# Altium footprint library adafruit.PCBLIB: 643 footprints (part 20 of 41)
Each footprint in its own frame and in the unit in brackets; x right, y up, seen from the top. Pads: shape width x height; smd on the part's side, far side on the other; paste and mask are expansions set on the pad; w line width, h text height; cw(c..) or ccw(c..) is an arc to the next point about the centre after c.
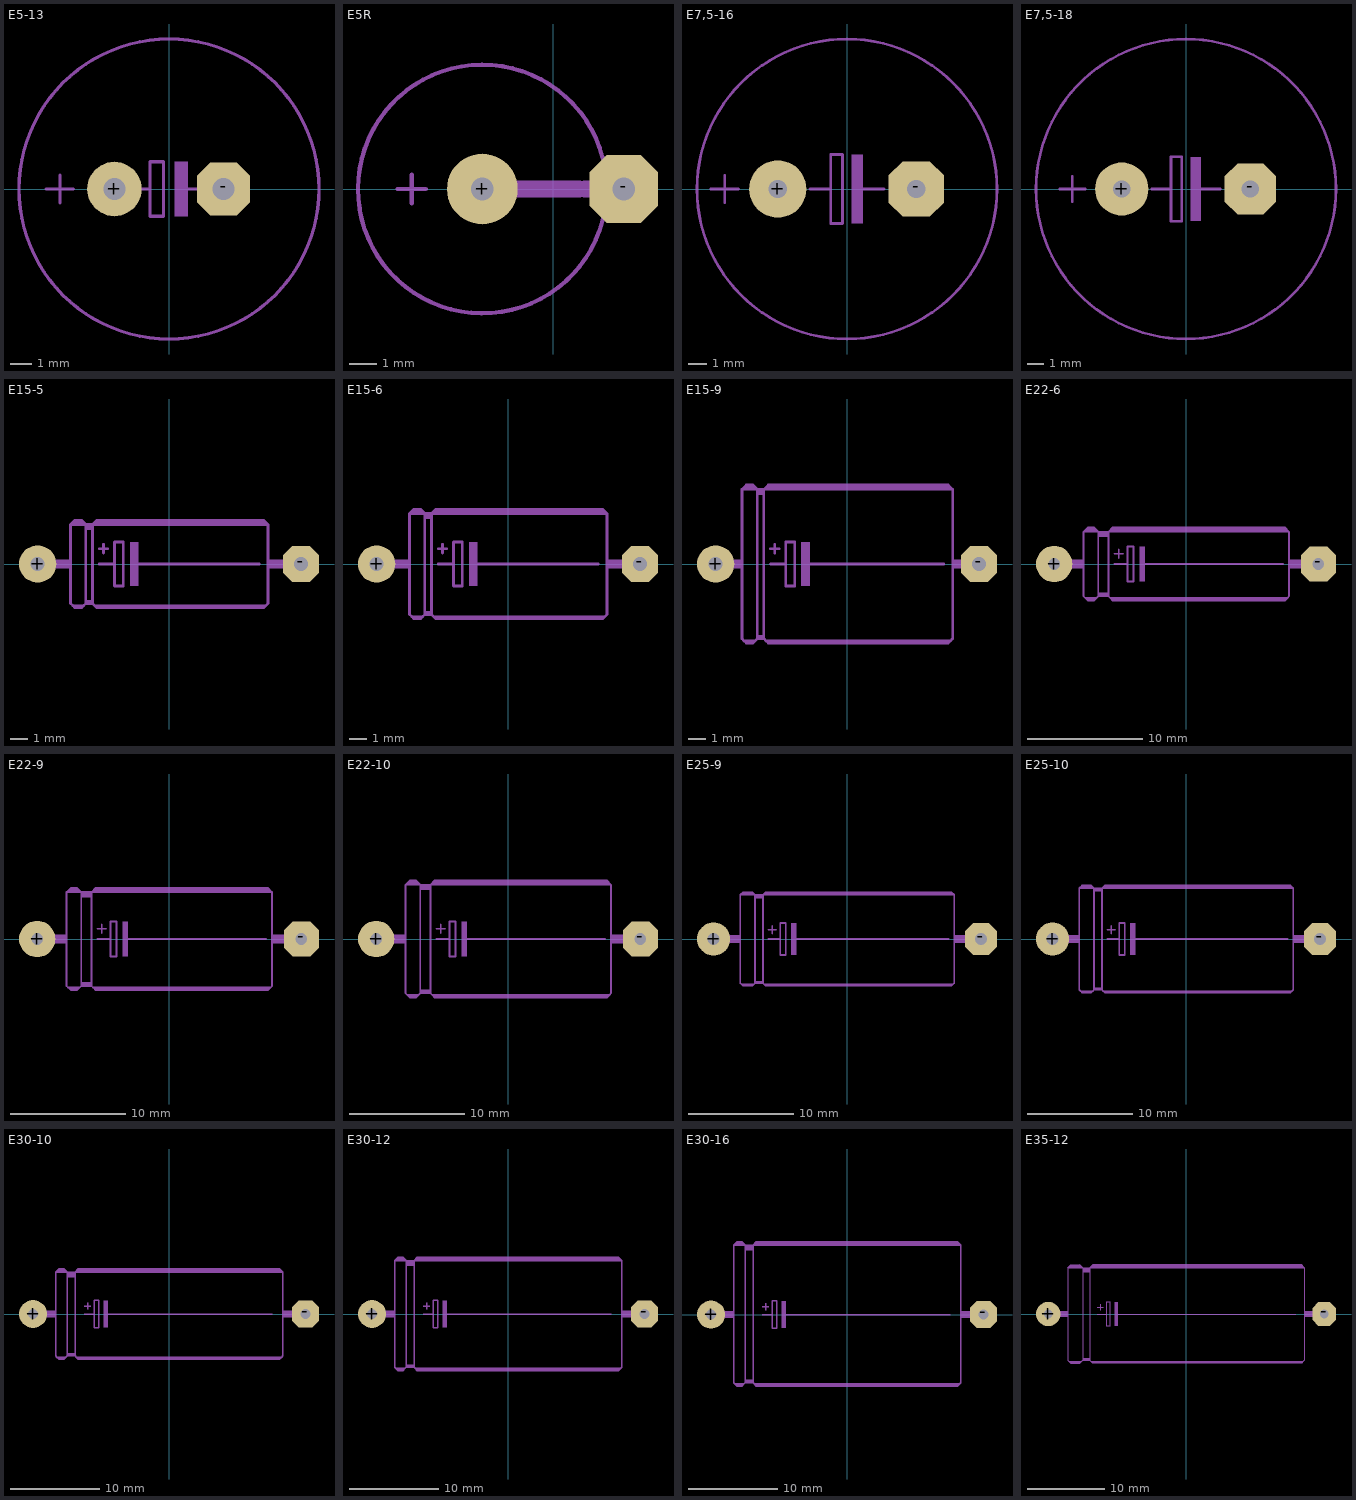
[diagram p19: the footprints below, top view; thin cyan lines are the x and y axes]

## E5-13 [mil]
pads (2):
  round 100 hole 40: +(-100,0)
  oct 96.82x96.82 hole 40: -(100,0)
Mechanical 2:
  circle w6: c0,0 r275
  rectangle: 10,-50 35,50
  lines w6: -225,0 -175,0 ; -200,-25 -200,25 ; -45,0 -35,0 ; 25,0 45,0 ; -35,0 -35,-50 -10,-50 -10,50 -35,50 -35,0
Mechanical 18:
  lines w6: -65,0 -45,0 ; 40,0 60,0

## E5R [mil]
pads (2):
  round 100 hole 32: +(-100,0)
  oct 96.82x96.82 hole 32: -(100,0)
Mechanical 2:
  lines w6: -220,0 -180,0 ; -200,-20 -200,20 ; 70,-45 cw(c-100,0) 70.16,44.39
  lines w24: -35,0 37,0
Mechanical 18:
  lines w6: 69.81,45.72 cw(c-100,0) 70,-45
  lines w24: -100,0 -40,0 ; 45,0 100,0

## E7,5-16 [mil]
pads (2):
  round 124 hole 40: +(-150,0)
  oct 120.06x120.06 hole 40: -(150,0)
Mechanical 2:
  circle w6: c0,0 r325
  rectangle: 10,-75 35,75
  lines w6: -295,0 -235,0 ; -265,-30 -265,30 ; -80,0 -35,0 ; 25,0 80,0 ; -35,0 -35,75 -10,75 -10,-75 -35,-75 -35,0

## E7,5-18 [mil]
pads (2):
  round 124 hole 40: +(-150,0)
  oct 120.06x120.06 hole 40: -(150,0)
Mechanical 2:
  circle w6: c0,0 r350
  rectangle: 10,-75 35,75
  lines w6: -295,0 -235,0 ; -265,-30 -265,30 ; -80,0 -35,0 ; 25,0 80,0 ; -35,0 -35,75 -10,75 -10,-75 -35,-75 -35,0

## E15-5 [mil]
pads (2):
  round 85 hole 32: +(-300,0)
  oct 82.3x82.3 hole 32: -(300,0)
Mechanical 2:
  rectangle: -90,-50 -70,50
  rectangle: -255,-10 -225,10
  rectangle: 225,-10 255,10
  lines w6: -200,-98 -215,-98 -215,-100 ; -160,0 -125,0 ; -160,35 -140,35 ; -150,25 -150,45 ; -75,0 205,0 ; 215,-98 -165,-98 -165,-100 ; -225,90 -225,-90 -220,-95 ; -225,90 -215,100 -200,100 -190,90 ; -225,90 -190,90 ; -220,-95 -215,-100 ; -220,-95 -195,-95 ; -215,-100 -200,-100 -195,-95 ; -195,-95 -190,-90 ; -190,-90 -175,-90 ; -190,-90 -190,-88 ; -190,-88 -190,-85 ; -190,-88 -175,-88 ; -190,-85 -190,80 ; -190,-85 -175,-85 ; -190,80 -190,90 ; -190,80 -175,80 ; -190,90 -175,90 ; -175,-90 -170,-95 ; -175,-90 -175,-88 ; -175,-88 -175,-85 ; -175,-85 -175,80 ; -175,80 -175,90 ; -175,90 -165,100 215,100 225,90 ; -175,90 225,90 ; -170,-95 -165,-100 ; -170,-95 220,-95 ; -165,-100 215,-100 220,-95 ; -125,0 -125,-50 -105,-50 -105,50 -125,50 -125,0 ; 220,-95 225,-90 225,90
  lines w12: -215,95 -200,95 ; -185,85 -180,85 ; -165,95 215,95
Mechanical 18:
  lines w20: -300,0 -255,0 ; 255,0 300,0

## E15-6 [mil]
pads (2):
  round 85 hole 32: +(-300,0)
  oct 82.3x82.3 hole 32: -(300,0)
Mechanical 2:
  rectangle: -90,-50 -70,50
  rectangle: -255,-10 -225,10
  rectangle: 225,-10 255,10
  lines w6: -200,-123 -215,-123 -215,-125 ; -160,0 -125,0 ; -160,35 -140,35 ; -150,25 -150,45 ; -75,0 205,0 ; 215,-123 -165,-123 -165,-125 ; -225,115 -225,-115 -220,-120 ; -225,115 -215,125 -200,125 -190,115 ; -225,115 -190,115 ; -220,-120 -215,-125 ; -220,-120 -195,-120 ; -215,-125 -200,-125 -195,-120 ; -195,-120 -190,-115 ; -190,-115 -175,-115 ; -190,-115 -190,-113 ; -190,-113 -190,-110 ; -190,-113 -175,-113 ; -190,-110 -190,105 ; -190,-110 -175,-110 ; -190,105 -190,115 ; -190,105 -175,105 ; -190,115 -175,115 ; -175,-115 -170,-120 ; -175,-115 -175,-113 ; -175,-113 -175,-110 ; -175,-110 -175,105 ; -175,105 -175,115 ; -175,115 -165,125 215,125 225,115 ; -175,115 225,115 ; -170,-120 -165,-125 ; -170,-120 220,-120 ; -165,-125 215,-125 220,-120 ; -125,0 -125,-50 -105,-50 -105,50 -125,50 -125,0 ; 220,-120 225,-115 225,115
  lines w12: -215,120 -200,120 ; -185,110 -180,110 ; -165,120 215,120
Mechanical 18:
  lines w20: -300,0 -255,0 ; 255,0 300,0

## E15-9 [mil]
pads (2):
  round 85 hole 32: +(-300,0)
  oct 82.3x82.3 hole 32: -(300,0)
Mechanical 2:
  rectangle: -105,-50 -85,50
  rectangle: 240,-10 255,10
  rectangle: -255,-10 -240,10
  lines w6: -215,-178 -230,-178 -230,-180 ; -175,0 -140,0 ; -175,35 -155,35 ; -165,25 -165,45 ; -90,0 220,0 ; 230,-178 -180,-178 -180,-180 ; -240,170 -240,-170 -235,-175 ; -240,170 -230,180 -215,180 -205,170 ; -240,170 -205,170 ; -235,-175 -230,-180 ; -235,-175 -210,-175 ; -230,-180 -215,-180 -210,-175 ; -210,-175 -205,-170 ; -205,-170 -190,-170 ; -205,-170 -205,-168 ; -205,-168 -205,-165 ; -205,-168 -190,-168 ; -205,-165 -205,160 ; -205,-165 -190,-165 ; -205,160 -205,170 ; -205,160 -190,160 ; -205,170 -190,170 ; -190,-170 -185,-175 ; -190,-170 -190,-168 ; -190,-168 -190,-165 ; -190,-165 -190,160 ; -190,160 -190,170 ; -190,170 -180,180 230,180 240,170 ; -190,170 240,170 ; -185,-175 -180,-180 ; -185,-175 235,-175 ; -180,-180 230,-180 235,-175 ; -140,0 -140,-50 -120,-50 -120,50 -140,50 -140,0 ; 235,-175 240,-170 240,170
  lines w12: -230,175 -215,175 ; -200,165 -195,165 ; -180,175 230,175
Mechanical 18:
  lines w20: -300,0 -255,0 ; 255,0 300,0

## E22-6 [mil]
pads (2):
  round 124 hole 40: +(-450,0)
  oct 120.06x120.06 hole 40: -(450,0)
Mechanical 2:
  rectangle: -160,-60 -140,60
  rectangle: -385,-15 -350,15
  rectangle: 350,-15 385,15
  lines w6: -245,0 -200,0 ; -245,35 -215,35 ; -230,20 -230,50 ; -145,0 330,0 ; -350,110 -350,-110 -345,-115 ; -350,110 -335,125 -315,125 -300,110 ; -350,110 -300,110 ; -345,-115 -305,-115 ; -345,-115 -335,-125 -315,-125 -305,-115 ; -305,-115 -300,-110 ; -300,-110 -300,-100 ; -300,-110 -265,-110 ; -300,-100 -265,-100 ; -300,-100 -300,95 ; -300,95 -300,110 ; -300,95 -265,95 ; -300,110 -265,110 ; -265,-110 -260,-115 ; -265,-110 -265,-100 ; -265,-100 -265,95 ; -265,95 -265,110 ; -265,110 -250,125 335,125 350,110 ; -265,110 350,110 ; -260,-115 -250,-125 335,-125 345,-115 ; -260,-115 345,-115 ; -200,0 -200,60 -180,60 -180,-60 -200,-60 -200,0 ; 345,-115 350,-110 350,110
  lines w10: -335,-120 -315,-120 ; -295,-105 -270,-105 ; -250,-120 335,-120
  lines w12: -340,115 -310,115 ; -335,120 -315,120 ; -295,100 -270,100 ; -295,105 -270,105 ; -255,115 340,115 ; -250,120 335,120
Mechanical 18:
  lines w30: -450,0 -385,0 ; 385,0 450,0

## E22-9 [mil]
pads (2):
  round 124 hole 40: +(-450,0)
  oct 120.06x120.06 hole 40: -(450,0)
Mechanical 2:
  rectangle: -160,-60 -140,60
  rectangle: -385,-15 -350,15
  rectangle: 350,-15 385,15
  lines w6: -245,0 -200,0 ; -245,35 -215,35 ; -230,20 -230,50 ; -145,0 330,0 ; -350,160 -350,-160 -345,-165 ; -350,160 -335,175 -315,175 -300,160 ; -350,160 -300,160 ; -345,-165 -305,-165 ; -345,-165 -335,-175 -315,-175 -305,-165 ; -305,-165 -300,-160 ; -300,-160 -300,-150 ; -300,-160 -265,-160 ; -300,-150 -265,-150 ; -300,-150 -300,145 ; -300,145 -300,160 ; -300,145 -265,145 ; -300,160 -265,160 ; -265,-160 -260,-165 ; -265,-160 -265,-150 ; -265,-150 -265,145 ; -265,145 -265,160 ; -265,160 -250,175 335,175 350,160 ; -265,160 350,160 ; -260,-165 -250,-175 335,-175 345,-165 ; -260,-165 345,-165 ; -200,0 -200,60 -180,60 -180,-60 -200,-60 -200,0 ; 345,-165 350,-160 350,160
  lines w10: -335,-170 -315,-170 ; -295,-155 -270,-155 ; -250,-170 335,-170
  lines w12: -340,165 -310,165 ; -335,170 -315,170 ; -295,150 -270,150 ; -295,155 -270,155 ; -255,165 340,165 ; -250,170 335,170
Mechanical 18:
  lines w30: -450,0 -385,0 ; 385,0 450,0

## E22-10 [mil]
pads (2):
  round 124 hole 40: +(-450,0)
  oct 120.06x120.06 hole 40: -(450,0)
Mechanical 2:
  rectangle: -160,-60 -140,60
  rectangle: -385,-15 -350,15
  rectangle: 350,-15 385,15
  lines w6: -245,0 -200,0 ; -245,35 -215,35 ; -230,20 -230,50 ; -145,0 330,0 ; -350,185 -350,-185 -345,-190 ; -350,185 -335,200 -315,200 -300,185 ; -350,185 -300,185 ; -345,-190 -305,-190 ; -345,-190 -335,-200 -315,-200 -305,-190 ; -305,-190 -300,-185 ; -300,-185 -300,-175 ; -300,-185 -265,-185 ; -300,-175 -265,-175 ; -300,-175 -300,170 ; -300,170 -300,185 ; -300,170 -265,170 ; -300,185 -265,185 ; -265,-185 -260,-190 ; -265,-185 -265,-175 ; -265,-175 -265,170 ; -265,170 -265,185 ; -265,185 -250,200 335,200 350,185 ; -265,185 350,185 ; -260,-190 -250,-200 335,-200 345,-190 ; -260,-190 345,-190 ; -200,0 -200,60 -180,60 -180,-60 -200,-60 -200,0 ; 345,-190 350,-185 350,185
  lines w10: -335,-195 -315,-195 ; -295,-180 -270,-180 ; -250,-195 335,-195
  lines w12: -340,190 -310,190 ; -335,195 -315,195 ; -295,175 -270,175 ; -295,180 -270,180 ; -255,190 340,190 ; -250,195 335,195
Mechanical 18:
  lines w30: -450,0 -385,0 ; 385,0 450,0

## E25-9 [mil]
pads (2):
  round 124 hole 44: +(-500,0)
  oct 120.06x120.06 hole 44: -(500,0)
Mechanical 2:
  rectangle: -210,-60 -190,60
  rectangle: -435,-15 -400,15
  rectangle: 400,-15 435,15
  lines w6: -390,-173 -355,-173 -355,-175 ; -295,0 -250,0 ; -295,35 -265,35 ; -280,20 -280,50 ; -195,0 380,0 ; 390,-173 -305,-173 -305,-175 ; -400,165 -390,175 -355,175 -345,165 ; -400,165 -400,-165 -395,-170 ; -400,165 -345,165 ; -395,-170 -390,-175 -355,-175 ; -395,-170 -350,-170 ; -355,-175 -350,-170 ; -350,-170 -345,-165 ; -345,-165 -345,-163 ; -345,-165 -315,-165 ; -345,-163 -315,-163 ; -345,-163 -345,-160 ; -345,-160 -345,155 ; -345,-160 -315,-160 ; -345,155 -345,165 ; -345,155 -315,155 ; -345,165 -315,165 ; -315,-165 -315,-163 ; -315,-165 -310,-170 ; -315,-163 -315,-160 ; -315,-160 -315,155 ; -315,155 -315,165 ; -315,165 -305,175 390,175 400,165 ; -315,165 400,165 ; -310,-170 -305,-175 ; -310,-170 395,-170 ; -305,-175 390,-175 395,-170 ; -250,0 -250,60 -230,60 -230,-60 -250,-60 -250,0 ; 395,-170 400,-165 400,165
  lines w12: -390,170 -355,170 ; -340,160 -320,160 ; -305,170 390,170
Mechanical 18:
  lines w30: -500,0 -435,0 ; 435,0 500,0

## E25-10 [mil]
pads (2):
  round 124 hole 44: +(-500,0)
  oct 120.06x120.06 hole 44: -(500,0)
Mechanical 2:
  rectangle: -210,-60 -190,60
  rectangle: -435,-15 -400,15
  rectangle: 400,-15 435,15
  lines w6: -390,-198 -355,-198 -355,-200 ; -295,0 -250,0 ; -295,35 -265,35 ; -280,20 -280,50 ; -195,0 380,0 ; 390,-198 -305,-198 -305,-200 ; -400,190 -390,200 -355,200 -345,190 ; -400,190 -400,-190 -395,-195 ; -400,190 -345,190 ; -395,-195 -390,-200 -355,-200 ; -395,-195 -350,-195 ; -355,-200 -350,-195 ; -350,-195 -345,-190 ; -345,-190 -345,-188 ; -345,-190 -315,-190 ; -345,-188 -315,-188 ; -345,-188 -345,-185 ; -345,-185 -345,180 ; -345,-185 -315,-185 ; -345,180 -345,190 ; -345,180 -315,180 ; -345,190 -315,190 ; -315,-190 -315,-188 ; -315,-190 -310,-195 ; -315,-188 -315,-185 ; -315,-185 -315,180 ; -315,180 -315,190 ; -315,190 -305,200 390,200 400,190 ; -315,190 400,190 ; -310,-195 -305,-200 ; -310,-195 395,-195 ; -305,-200 390,-200 395,-195 ; -250,0 -250,60 -230,60 -230,-60 -250,-60 -250,0 ; 395,-195 400,-190 400,190
  lines w12: -390,195 -355,195 ; -340,185 -320,185 ; -305,195 390,195
Mechanical 18:
  lines w30: -500,0 -435,0 ; 435,0 500,0

## E30-10 [mil]
pads (2):
  round 124 hole 44: +(-600,0)
  oct 120.06x120.06 hole 44: -(600,0)
Mechanical 2:
  rectangle: -290,-60 -270,60
  rectangle: -530,-15 -500,15
  rectangle: 500,-15 530,15
  lines w6: -375,0 -330,0 ; -375,35 -345,35 ; -360,20 -360,50 ; -275,0 455,0 ; -500,185 -500,-185 -495,-190 ; -500,185 -485,200 -465,200 -450,185 ; -500,185 -450,185 ; -495,-190 -455,-190 ; -495,-190 -485,-200 -465,-200 -455,-190 ; -455,-190 -450,-185 ; -450,-185 -415,-185 ; -450,-185 -450,-175 ; -450,-175 -450,165 ; -450,-175 -415,-175 ; -450,165 -450,185 ; -450,165 -415,165 ; -450,185 -415,185 ; -415,-185 -410,-190 ; -415,-185 -415,-175 ; -415,-175 -415,165 ; -415,165 -415,185 ; -415,185 -400,200 485,200 500,185 ; -415,185 500,185 ; -410,-190 -400,-200 485,-200 495,-190 ; -410,-190 495,-190 ; -330,0 -330,60 -310,60 -310,-60 -330,-60 -330,0 ; 495,-190 500,-185 500,185
  lines w12: -490,190 -460,190 ; -485,-195 -465,-195 ; -485,195 -465,195 ; -445,-180 -420,-180 ; -445,170 -420,170 ; -445,180 -420,180 ; -405,190 490,190 ; -400,-195 485,-195 ; -400,195 485,195
Mechanical 18:
  lines w30: -600,0 -530,0 ; 530,0 600,0

## E30-12 [mil]
pads (2):
  round 124 hole 44: +(-600,0)
  oct 120.06x120.06 hole 44: -(600,0)
Mechanical 2:
  rectangle: -290,-60 -270,60
  rectangle: -530,-15 -500,15
  rectangle: 500,-15 530,15
  lines w6: -375,0 -330,0 ; -375,35 -345,35 ; -360,20 -360,50 ; -275,0 455,0 ; -500,235 -500,-235 -495,-240 ; -500,235 -485,250 -465,250 -450,235 ; -500,235 -450,235 ; -495,-240 -455,-240 ; -495,-240 -485,-250 -465,-250 -455,-240 ; -455,-240 -450,-235 ; -450,-235 -415,-235 ; -450,-235 -450,-225 ; -450,-225 -450,215 ; -450,-225 -415,-225 ; -450,215 -450,235 ; -450,215 -415,215 ; -450,235 -415,235 ; -415,-235 -410,-240 ; -415,-235 -415,-225 ; -415,-225 -415,215 ; -415,215 -415,235 ; -415,235 -400,250 485,250 500,235 ; -415,235 500,235 ; -410,-240 -400,-250 485,-250 495,-240 ; -410,-240 495,-240 ; -330,0 -330,60 -310,60 -310,-60 -330,-60 -330,0 ; 495,-240 500,-235 500,235
  lines w12: -490,240 -460,240 ; -485,-245 -465,-245 ; -485,245 -465,245 ; -445,-230 -420,-230 ; -445,220 -420,220 ; -445,230 -420,230 ; -405,240 490,240 ; -400,-245 485,-245 ; -400,245 485,245
Mechanical 18:
  lines w30: -600,0 -530,0 ; 530,0 600,0

## E30-16 [mil]
pads (2):
  round 124 hole 44: +(-600,0)
  oct 120.06x120.06 hole 44: -(600,0)
Mechanical 2:
  rectangle: -290,-60 -270,60
  rectangle: -530,-15 -500,15
  rectangle: 500,-15 530,15
  lines w6: -375,0 -330,0 ; -375,35 -345,35 ; -360,20 -360,50 ; -275,0 455,0 ; -500,305 -500,-300 -495,-305 ; -500,305 -485,320 -465,320 -450,305 ; -500,305 -450,305 ; -495,-305 -455,-305 ; -495,-305 -485,-315 -465,-315 -455,-305 ; -455,-305 -450,-300 ; -450,-300 -415,-300 ; -450,-300 -450,-290 ; -450,-290 -450,285 ; -450,-290 -415,-290 ; -450,285 -450,305 ; -450,285 -415,285 ; -450,305 -415,305 ; -415,-300 -410,-305 ; -415,-300 -415,-290 ; -415,-290 -415,285 ; -415,285 -415,305 ; -415,305 -400,320 485,320 500,305 ; -415,305 500,305 ; -410,-305 -400,-315 485,-315 495,-305 ; -410,-305 495,-305 ; -330,0 -330,60 -310,60 -310,-60 -330,-60 -330,0 ; 495,-305 500,-300 500,305
  lines w12: -490,310 -460,310 ; -485,-310 -465,-310 ; -485,315 -465,315 ; -445,-295 -420,-295 ; -445,290 -420,290 ; -445,300 -420,300 ; -405,310 490,310 ; -400,-310 485,-310 ; -400,315 485,315
Mechanical 18:
  lines w30: -600,0 -530,0 ; 530,0 600,0

## E35-12 [mil]
pads (2):
  round 124 hole 44: +(-700,0)
  oct 120.06x120.06 hole 44: -(700,0)
Mechanical 2:
  rectangle: -365,-60 -345,60
  rectangle: -635,-15 -600,15
  rectangle: 600,-15 635,15
  lines w6: -450,0 -405,0 ; -450,35 -420,35 ; -435,20 -435,50 ; -350,0 555,0 ; -600,235 -600,-235 -595,-240 ; -600,235 -585,250 -540,250 -525,235 ; -600,235 -525,235 ; -595,-240 -530,-240 ; -595,-240 -585,-250 -540,-250 -530,-240 ; -530,-240 -525,-235 ; -525,-235 -490,-235 ; -525,-235 -525,-225 ; -525,-225 -525,215 ; -525,-225 -490,-225 ; -525,215 -525,235 ; -525,215 -490,215 ; -525,235 -490,235 ; -490,-235 -485,-240 ; -490,-235 -490,-225 ; -490,-225 -490,215 ; -490,215 -490,235 ; -490,235 -475,250 585,250 600,235 ; -490,235 600,235 ; -485,-240 -475,-250 585,-250 595,-240 ; -485,-240 595,-240 ; -405,0 -405,60 -385,60 -385,-60 -405,-60 -405,0 ; 595,-240 600,-235 600,235
  lines w12: -590,240 -535,240 ; -585,-245 -540,-245 ; -585,245 -540,245 ; -520,-230 -495,-230 ; -520,220 -495,220 ; -520,230 -495,230 ; -480,240 590,240 ; -475,-245 585,-245 ; -475,245 585,245
Mechanical 18:
  lines w30: -700,0 -630,0 ; 630,0 700,0